# Altium footprint library DXPpcb.PCBLIB: 575 footprints (part 20 of 36)
Each footprint in its own frame and in the unit in brackets; x right, y up, seen from the top. Pads: shape width x height; smd on the part's side, far side on the other; paste and mask are expansions set on the pad; w line width, h text height; cw(c..) or ccw(c..) is an arc to the next point about the centre after c.
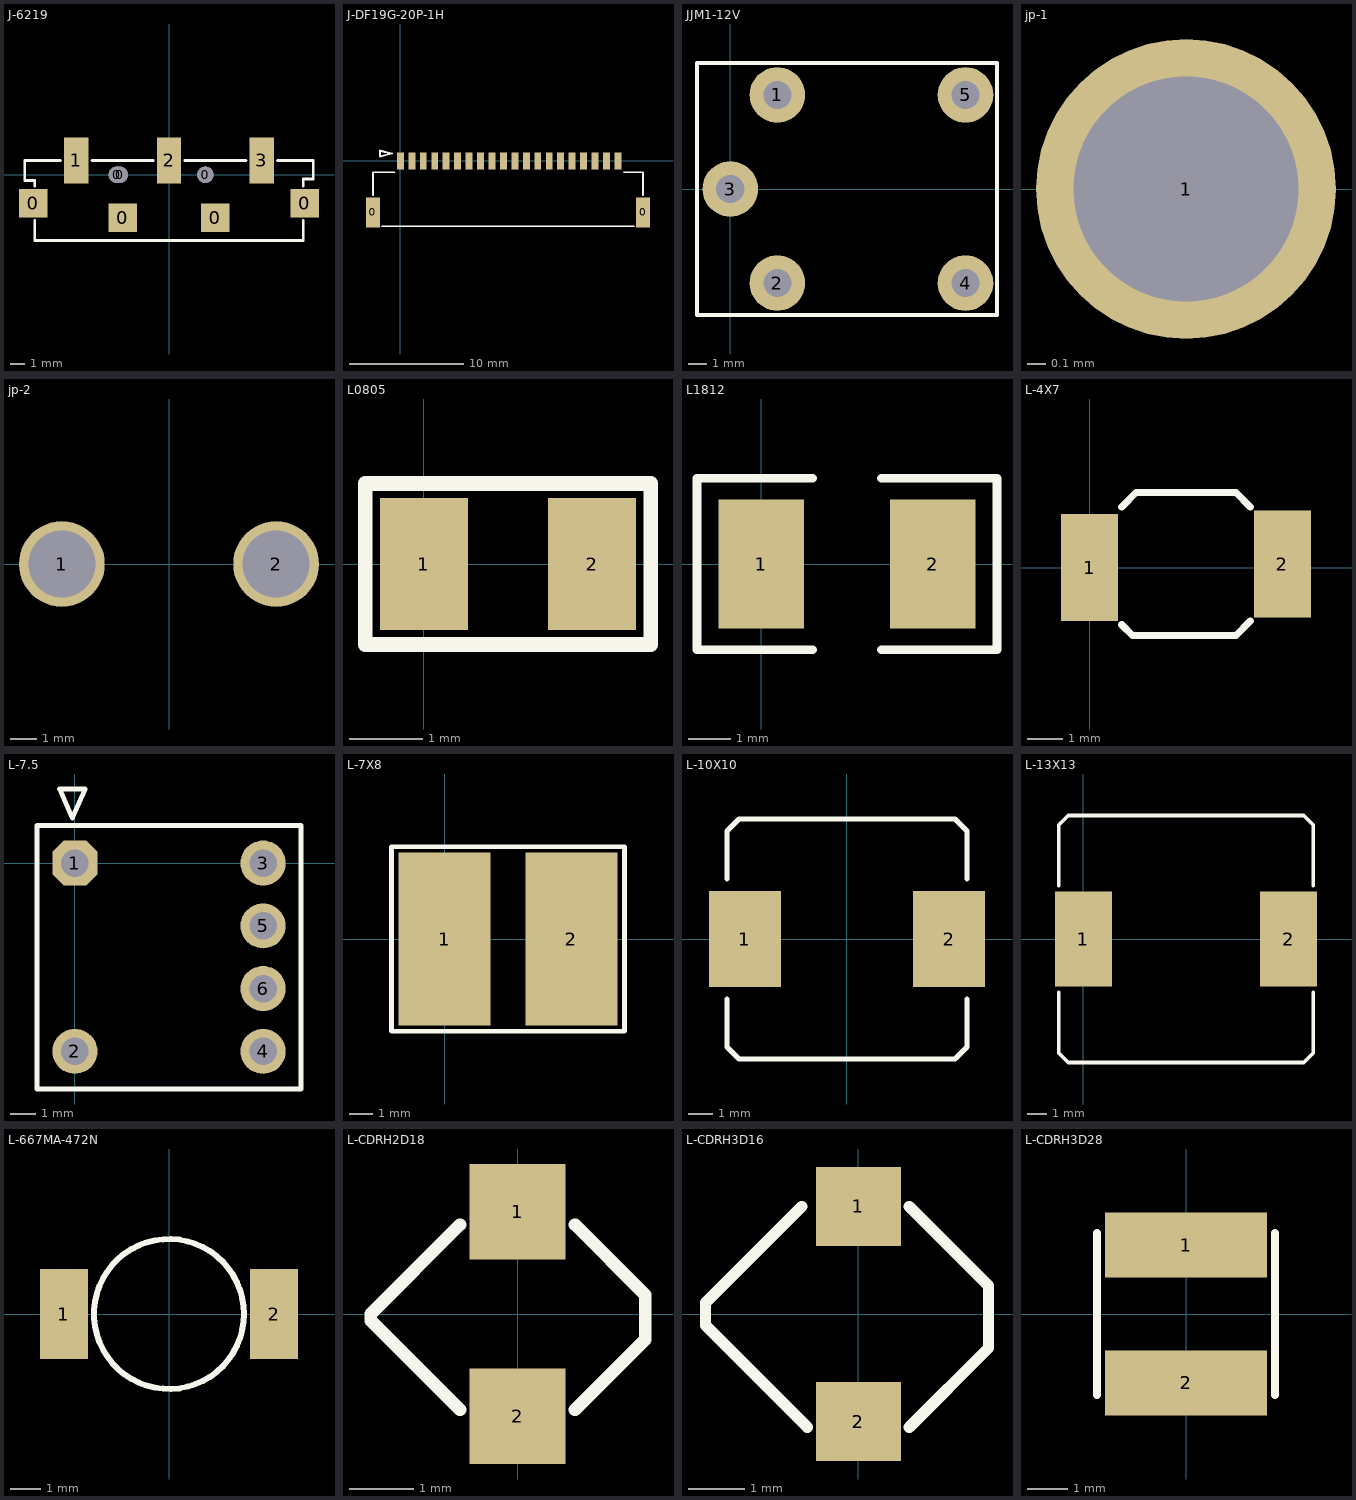
[diagram p19: the footprints below, top view; thin cyan lines are the x and y axes]

## J-6219 [mm]
pads (10):
  rect 2x2 smd: 0(-9.5,-2) 0(-3.25,-3) 0(3.25,-3) 0(9.5,-2)
  round 1.15 hole 1.15: 0(-3.65,0) 0(-3.45,0) 0(2.55,0)
  rect 1.7x3.2 smd: 1(-6.5,1) 2(0,1) 3(6.5,1)
TopOverlay:
  lines w0.2: -9.4,-3.2 -9.4,-4.6 9.4,-4.6 9.4,-3.2 ; -9.4,-0.8 -9.4,-0.4 -10.1,-0.4 -10.1,1 -7.6,1 ; -5.4,1 -1.1,1 ; 1.1,1 5.4,1 ; 7.6,1 10.1,1 10.1,-0.3 9.4,-0.3 9.4,-0.8

## J-DF19G-20P-1H [mm]
pads (22):
  rect 1.2x2.6 smd: 0(-2.4,-4.5) 0(21.2,-4.5)
  rect 0.6x1.5 smd: 1(0,0) 2(1,0) 3(2,0) 4(3,0) 5(4,0) 6(5,0) 7(6,0) 8(7,0) 9(8,0) 10(9,0) 11(10,0) 12(11,0) 13(12,0) 14(13,0) 15(14,0) 16(15,0) 17(16,0) 18(17,0) 19(18,0) 20(19,0)
TopOverlay:
  lines w0.152: -2.4,-3 -2.4,-1 -0.5,-1 ; -1.6,-5.7 20.4,-5.7 ; 19.5,-1 21.2,-1 21.2,-3
  lines w0.2: -1.778,0.384 -1.778,0.892 -0.762,0.638 -1.778,0.384
BottomOverlay:

## JJM1-12V [mm]
pads (5):
  round 3 hole 1.524: 1(2.54,5.08) 2(2.54,-5.08) 3(0,0) 4(12.7,-5.08) 5(12.7,5.08)
TopOverlay:
  lines w0.2: -1.8,-6.8 -1.8,6.8 14.4,6.8 14.4,-6.8 -1.8,-6.8

## jp-1 [mm]
pads (1):
  round 1.6 hole 1.2: 1(5,0)

## jp-2 [mm]
pads (2):
  round 3.2 hole 2.5: 1(-4,0) 2(4,0)

## L0805 [mm]
pads (2):
  rect 1.2x1.8 smd: 1(0,0) 2(2.3,0)
TopOverlay:
  lines w0.2: -0.8,-1.1 3.1,-1.1 3.1,1.1 -0.8,1.1 -0.8,-1.1

## L1812 [mm]
pads (2):
  rect 2x3 smd: 1(0,0) 2(4,0)
TopOverlay:
  lines w0.2: 1.2,-2 -1.5,-2 -1.5,2 1.2,2 ; 2.8,-2 5.5,-2 5.5,2 2.8,2

## L-4X7 [mm]
pads (2):
  rect 1.6x3 smd: 1(0,0) 2(5.4,0.1)
TopOverlay:
  lines w0.2: 0.9,-1.6 1.2,-1.9 4.1,-1.9 4.5,-1.5 ; 0.9,1.7 1.3,2.1 4.1,2.1 4.5,1.7

## L-7.5 [mm]
pads (6):
  oct 1.8x1.8 hole 1.1: 1(0,0)
  round 1.8 hole 1.1: 2(0,-7.5) 3(7.5,0) 4(7.5,-7.5) 5(7.5,-2.5) 6(7.5,-5)
TopOverlay:
  lines w0.2: -1.5,-9 9,-9 9,1.5 -1.5,1.5 -1.5,-9 ; -0.608,2.952 -0.1,1.8 0.408,2.952 -0.608,2.952

## L-7X8 [mm]
pads (2):
  rect 4x7.5 smd: 1(0,0) 2(5.5,0)
TopOverlay:
  lines w0.2: -2.3,-4 -2.3,4 7.8,4 7.8,-4 -2.3,-4

## L-10X10 [mm]
pads (2):
  rect 3x4 smd: 1(-4.25,0) 2(4.25,0)
TopOverlay:
  lines w0.2: -5,-2.5 -5,-4.5 -4.5,-5 4.5,-5 5,-4.5 5,-2.5 ; -5,2.5 -5,4.5 -4.5,5 4.5,5 5,4.5 5,2.5

## L-13X13 [mm]
pads (2):
  rect 3x5 smd: 1(0,0) 2(10.8,0)
TopOverlay:
  lines w0.2: -1.3,-2.8 -1.3,-6 -0.8,-6.5 11.6,-6.5 12.1,-6 12.1,-2.8 ; -1.3,2.8 -1.3,6 -0.8,6.5 11.6,6.5 12.1,6 12.1,2.8

## L-667MA-472N [mm]
pads (2):
  rect 1.6x3 smd: 1(-3.5,0) 2(3.5,0)
TopOverlay:
  circle w0.2: c0,0 r2.5

## L-CDRH2D18 [mm]
pads (2):
  rect 1.5x1.5 smd: 1(0,1.6) 2(0,-1.6)
TopOverlay:
  lines w0.2: -0.9,-1.5 -2.3,-0.1 -2.3,0 -0.9,1.4 ; 0.9,-1.5 2,-0.4 2,0.3 0.9,1.4

## L-CDRH3D16 [mm]
pads (2):
  rect 1.5x1.4 smd: 1(0,1.9) 2(0,-1.9)
TopOverlay:
  lines w0.2: -1,1.9 -2.7,0.2 -2.7,-0.2 -0.9,-2 ; 0.9,-2 2.3,-0.6 2.3,0.5 0.9,1.9

## L-CDRH3D28 [mm]
pads (2):
  rect 4x1.6 smd: 1(0,1.7) 2(0,-1.7)
TopOverlay:
  lines w0.2: -2.2,-2 -2.2,2 ; 2.2,-2 2.2,2